# EAGLE library part MOLEX-54819-0572 (library Ava)
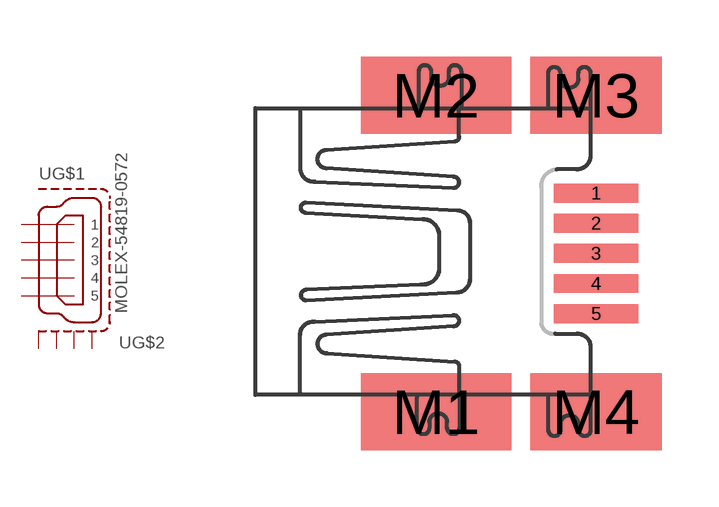
[diagram p27: symbol with the pads of MOLEX-54819-0572; footprint MOLEX-54819-0572]

Designator prefix -; gates G$1=MOLEX-54819-0572 G$2=MINIUSBSHEILD

## MOLEX-54819-0572  [MOLEX-54819-0572]
1  G$1:1  in
2  G$1:2  in
3  G$1:3  in
4  G$1:4  in
5  G$1:5  in
M1  G$2:S1  pas
M2  G$2:S2  pas
M3  G$2:S3  pas
M4  G$2:S4  pas

## Footprint MOLEX-54819-0572 (pad centres in mm)
smd 2.25 x 0.5: 1 0,1.6; 2 0,0.8; 3 0,0; 4 0,-0.8; 5 0,-1.6
smd 4 x 2.05: M1 -4.25,-4.2; M2 -4.25,4.2
smd 3.5 x 2.05: M3 0,4.2; M4 0,-4.2